# EAGLE library part H8S-2329 (library Misc)
126-018: Hitachi H8S-2329 Microcomputer
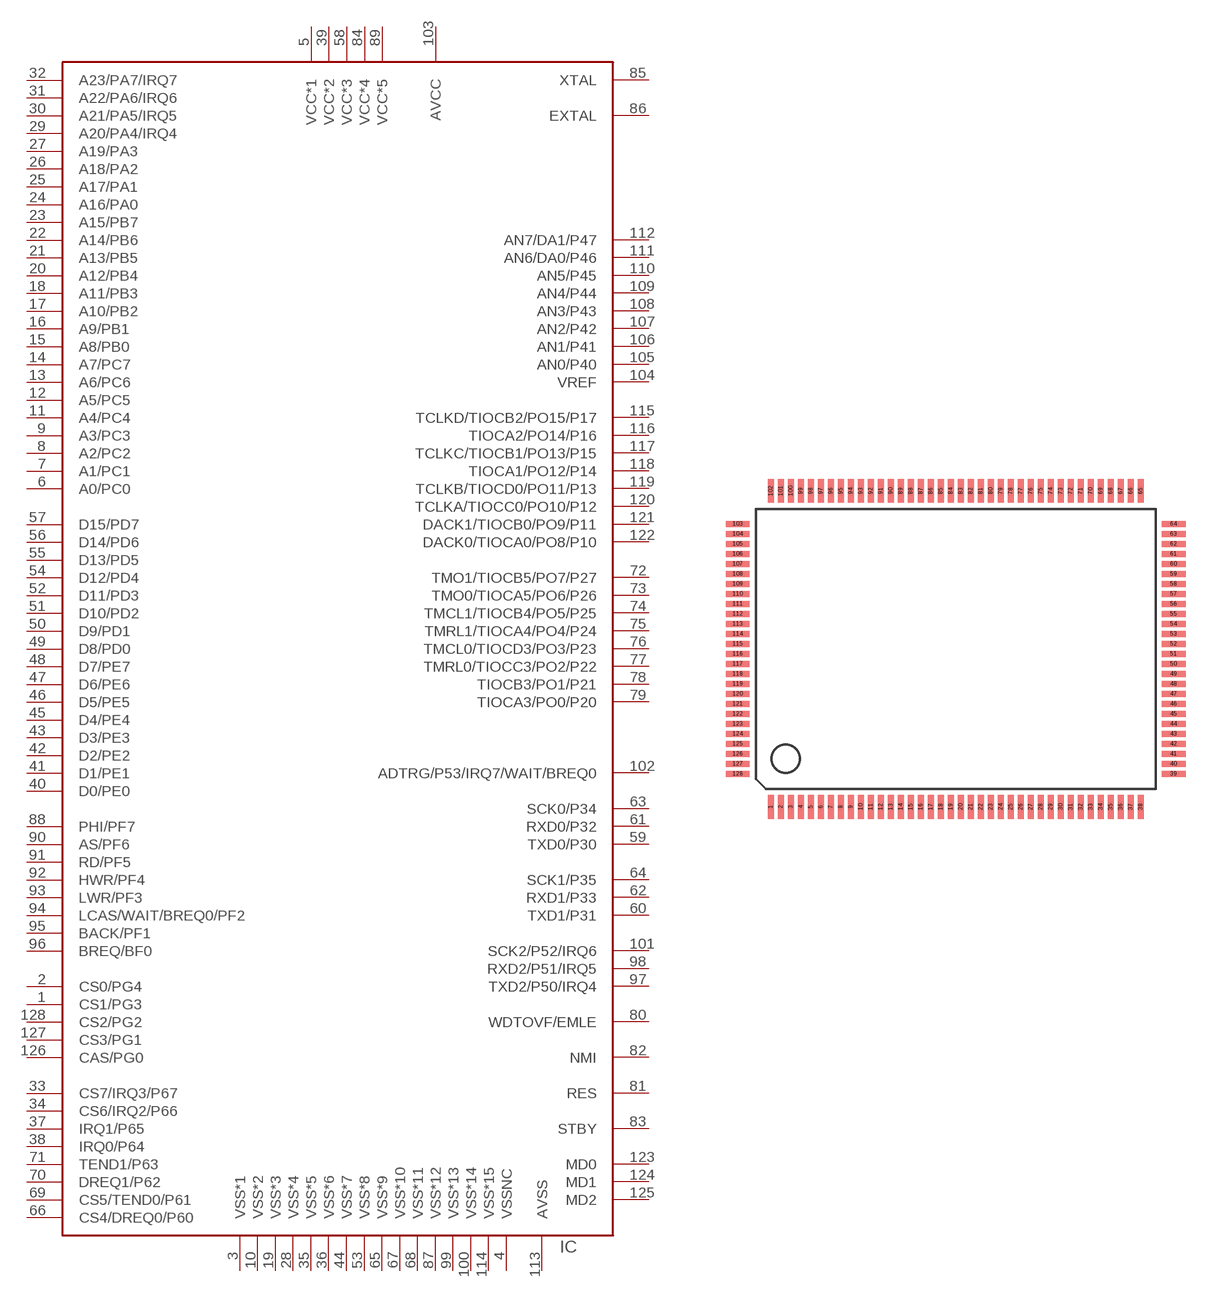
[diagram p0: symbol with the pads of FP-128; footprint FP-128]

Designator prefix IC

## H8S-2329-FP  [FP-128]
1  CS1/PG3
2  CS0/PG4
3  VSS*1  pwr
4  VSSNC
5  VCC*1  pwr
6  A0/PC0
7  A1/PC1
8  A2/PC2
9  A3/PC3
10  VSS*2  pwr
11  A4/PC4
12  A5/PC5
13  A6/PC6
14  A7/PC7
15  A8/PB0
16  A9/PB1
17  A10/PB2
18  A11/PB3
19  VSS*3  pwr
20  A12/PB4
21  A13/PB5
22  A14/PB6
23  A15/PB7
24  A16/PA0
25  A17/PA1
26  A18/PA2
27  A19/PA3
28  VSS*4  pwr
29  A20/PA4/IRQ4
30  A21/PA5/IRQ5
31  A22/PA6/IRQ6
32  A23/PA7/IRQ7
33  CS7/IRQ3/P67
34  CS6/IRQ2/P66
35  VSS*5  pwr
36  VSS*6  pwr
37  IRQ1/P65
38  IRQ0/P64
39  VCC*2  pwr
40  D0/PE0
41  D1/PE1
42  D2/PE2
43  D3/PE3
44  VSS*7  pwr
45  D4/PE4
46  D5/PE5
47  D6/PE6
48  D7/PE7
49  D8/PD0
50  D9/PD1
51  D10/PD2
52  D11/PD3
53  VSS*8  pwr
54  D12/PD4
55  D13/PD5
56  D14/PD6
57  D15/PD7
58  VCC*3  pwr
59  TXD0/P30
60  TXD1/P31
61  RXD0/P32
62  RXD1/P33
63  SCK0/P34
64  SCK1/P35
65  VSS*9  pwr
66  CS4/DREQ0/P60
67  VSS*10  pwr
68  VSS*11  pwr
69  CS5/TEND0/P61
70  DREQ1/P62
71  TEND1/P63
72  TMO1/TIOCB5/PO7/P27
73  TMO0/TIOCA5/PO6/P26
74  TMCL1/TIOCB4/PO5/P25
75  TMRL1/TIOCA4/PO4/P24
76  TMCL0/TIOCD3/PO3/P23
77  TMRL0/TIOCC3/PO2/P22
78  TIOCB3/PO1/P21
79  TIOCA3/PO0/P20
80  WDTOVF/EMLE
81  RES
82  NMI
83  STBY
84  VCC*4  pwr
85  XTAL
86  EXTAL
87  VSS*12  pwr
88  PHI/PF7
89  VCC*5  pwr
90  AS/PF6
91  RD/PF5
92  HWR/PF4
93  LWR/PF3
94  LCAS/WAIT/BREQ0/PF2
95  BACK/PF1
96  BREQ/BF0
97  TXD2/P50/IRQ4
98  RXD2/P51/IRQ5
99  VSS*13  pwr
100  VSS*14  pwr
101  SCK2/P52/IRQ6
102  ADTRG/P53/IRQ7/WAIT/BREQ0
103  AVCC  pwr
104  VREF
105  AN0/P40
106  AN1/P41
107  AN2/P42
108  AN3/P43
109  AN4/P44
110  AN5/P45
111  AN6/DA0/P46
112  AN7/DA1/P47
113  AVSS  pwr
114  VSS*15  pwr
115  TCLKD/TIOCB2/PO15/P17
116  TIOCA2/PO14/P16
117  TCLKC/TIOCB1/PO13/P15
118  TIOCA1/PO12/P14
119  TCLKB/TIOCD0/PO11/P13
120  TCLKA/TIOCC0/PO10/P12
121  DACK1/TIOCB0/PO9/P11
122  DACK0/TIOCA0/PO8/P10
123  MD0
124  MD1
125  MD2
126  CAS/PG0
127  CS3/PG1
128  CS2/PG2

## Footprint FP-128 (pad centres in mm)
smd 0.3 x 1.2: 1 -9.25,-7.9; 2 -8.75,-7.9; 3 -8.25,-7.9; 4 -7.75,-7.9; 5 -7.25,-7.9; 6 -6.75,-7.9; 7 -6.25,-7.9; 8 -5.75,-7.9; 9 -5.25,-7.9; 10 -4.75,-7.9; 11 -4.25,-7.9; 12 -3.75,-7.9; 13 -3.25,-7.9; 14 -2.75,-7.9; 15 -2.25,-7.9; 16 -1.75,-7.9; 17 -1.25,-7.9; 18 -0.75,-7.9; 19 -0.25,-7.9; 20 0.25,-7.9; 21 0.75,-7.9; 22 1.25,-7.9; 23 1.75,-7.9; 24 2.25,-7.9; 25 2.75,-7.9; 26 3.25,-7.9; 27 3.75,-7.9; 28 4.25,-7.9; 29 4.75,-7.9; 30 5.25,-7.9; 31 5.75,-7.9; 32 6.25,-7.9; 33 6.75,-7.9; 34 7.25,-7.9; 35 7.75,-7.9; 36 8.25,-7.9; 37 8.75,-7.9; 38 9.25,-7.9; 65 9.25,7.9; 66 8.75,7.9; 67 8.25,7.9; 68 7.75,7.9; 69 7.25,7.9; 70 6.75,7.9; 71 6.25,7.9; 72 5.75,7.9; 73 5.25,7.9; 74 4.75,7.9; 75 4.25,7.9; 76 3.75,7.9; 77 3.25,7.9; 78 2.75,7.9; 79 2.25,7.9; 80 1.75,7.9; 81 1.25,7.9; 82 0.75,7.9; 83 0.25,7.9; 84 -0.25,7.9; 85 -0.75,7.9; 86 -1.25,7.9; 87 -1.75,7.9; 88 -2.25,7.9; 89 -2.75,7.9; 90 -3.25,7.9; 91 -3.75,7.9; 92 -4.25,7.9; 93 -4.75,7.9; 94 -5.25,7.9; 95 -5.75,7.9; 96 -6.25,7.9; 97 -6.75,7.9; 98 -7.25,7.9; 99 -7.75,7.9; 100 -8.25,7.9; 101 -8.75,7.9; 102 -9.25,7.9
smd 1.2 x 0.3: 39 10.9,-6.25; 40 10.9,-5.75; 41 10.9,-5.25; 42 10.9,-4.75; 43 10.9,-4.25; 44 10.9,-3.75; 45 10.9,-3.25; 46 10.9,-2.75; 47 10.9,-2.25; 48 10.9,-1.75; 49 10.9,-1.25; 50 10.9,-0.75; 51 10.9,-0.25; 52 10.9,0.25; 53 10.9,0.75; 54 10.9,1.25; 55 10.9,1.75; 56 10.9,2.25; 57 10.9,2.75; 58 10.9,3.25; 59 10.9,3.75; 60 10.9,4.25; 61 10.9,4.75; 62 10.9,5.25; 63 10.9,5.75; 64 10.9,6.25; 103 -10.9,6.25; 104 -10.9,5.75; 105 -10.9,5.25; 106 -10.9,4.75; 107 -10.9,4.25; 108 -10.9,3.75; 109 -10.9,3.25; 110 -10.9,2.75; 111 -10.9,2.25; 112 -10.9,1.75; 113 -10.9,1.25; 114 -10.9,0.75; 115 -10.9,0.25; 116 -10.9,-0.25; 117 -10.9,-0.75; 118 -10.9,-1.25; 119 -10.9,-1.75; 120 -10.9,-2.25; 121 -10.9,-2.75; 122 -10.9,-3.25; 123 -10.9,-3.75; 124 -10.9,-4.25; 125 -10.9,-4.75; 126 -10.9,-5.25; 127 -10.9,-5.75; 128 -10.9,-6.25